# Altium footprint library SON50P250X250X80-10N.PcbLib: 1 footprints
Each footprint in its own frame and in the unit in brackets; x right, y up, seen from the top. Pads: shape width x height; smd on the part's side, far side on the other; paste and mask are expansions set on the pad; w line width, h text height; cw(c..) or ccw(c..) is an arc to the next point about the centre after c.
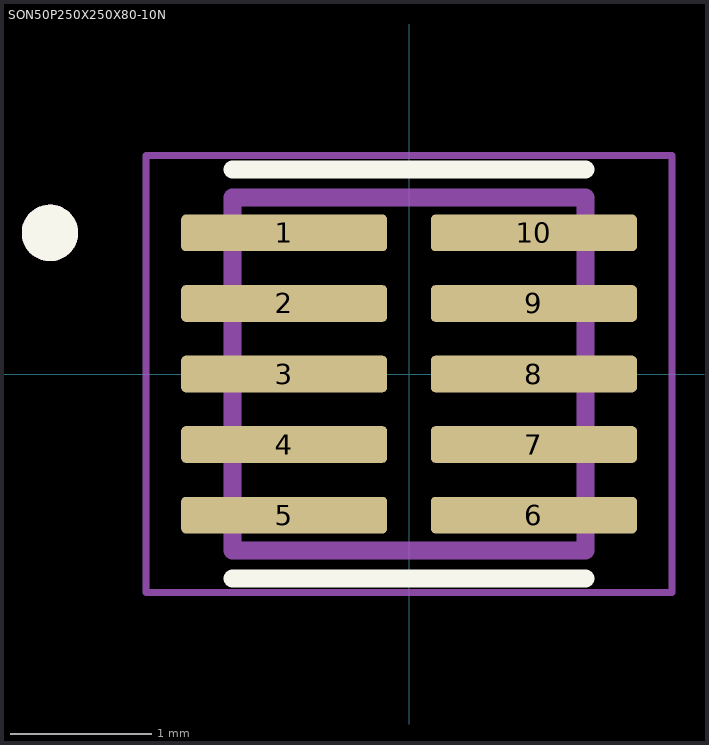
[diagram p0: the footprint, top view; thin cyan lines are the x and y axes]

## SON50P250X250X80-10N [mm]
pads (10):
  rrect25% 1.46x0.26 smd: 1(-0.885,1) 2(-0.885,0.5) 3(-0.885,0) 4(-0.885,-0.5) 5(-0.885,-1) 6(0.885,-1) 7(0.885,-0.5) 8(0.885,0) 9(0.885,0.5) 10(0.885,1)
Top Overlay:
  circle w0.2: c-2.545,1 r0.1
  lines w0.127: -1.25,-1.45 1.25,-1.45 ; -1.25,1.45 1.25,1.45
Mechanical 13:
  circle w0.2: c-2.545,1 r0.1
  lines w0.127: -1.25,-1.25 -1.25,1.25 1.25,1.25 1.25,-1.25 -1.25,-1.25
Mechanical 15:
  lines w0.05: -1.865,-1.55 -1.865,1.55 1.865,1.55 1.865,-1.55 -1.865,-1.55